# EAGLE library part 182-025-2 (library Connector_D-Sub)
D-SUB, 25POS, RCPT, R/A SLDR Datasheet <https://content.norcomp.net/rohspdfs/Connectors/18Y/182/182-yyy-213Ryy1.pdf>
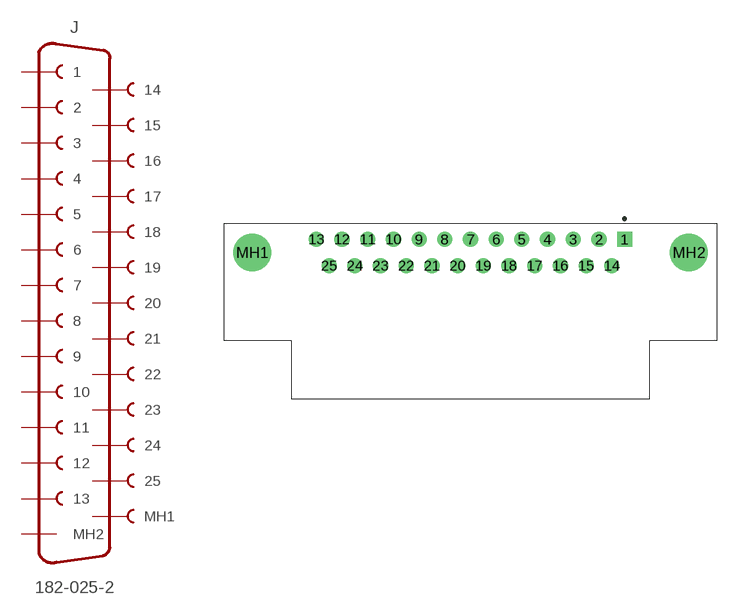
[diagram p4: symbol with the pads of 182-025-213R531; footprint 182-025-213R531]

Designator prefix J

## 182-025-2 (CATEGORY: Connector; DESCRIPTION: 25 Position D-Sub Receptacle, Female Sockets Connector; GENDER: Female; MANUFACTURER: NORCOMP; MPN: 182-025-213R531; OPERATING_TEMP: -55°C to +105°C; PART_STATUS: Active; ROHS_COMPLIANT: RoHS Compliant; SERIES: 182; SUB-CATEGORY: D-Sub; TYPE: R/A; VALUE: D-SUB-RCPT-25P)  [182-025-213R531]
1  1  pas
2  2  pas
3  3  pas
4  4  pas
5  5  pas
6  6  pas
7  7  pas
8  8  pas
9  9  pas
10  10  pas
11  11  pas
12  12  pas
13  13  pas
14  14  pas
15  15  pas
16  16  pas
17  17  pas
18  18  pas
19  19  pas
20  20  pas
21  21  pas
22  22  pas
23  23  pas
24  24  pas
25  25  pas
MH1  MH2  sup
MH2  MH1  sup

## Footprint 182-025-213R531 (pad centres in mm)
drill 1.092 square: 1 0,0
drill 1.092: 2 -2.769,0; 3 -5.537,0; 4 -8.306,0; 5 -11.074,0; 6 -13.843,0; 7 -16.612,0; 8 -19.38,0; 9 -22.149,0; 10 -24.917,0; 11 -27.686,0; 12 -30.455,0; 13 -33.223,0; 14 -1.384,-2.845; 15 -4.153,-2.845; 16 -6.921,-2.845; 17 -9.69,-2.845; 18 -12.459,-2.845; 19 -15.227,-2.845; 20 -17.996,-2.845; 21 -20.765,-2.845; 22 -23.533,-2.845; 23 -26.302,-2.845; 24 -29.07,-2.845; 25 -31.839,-2.845
drill 3.048: MH1 -40.132,-1.422; MH2 6.909,-1.422